# Altium schematic symbol library PowerPCB.SchLib: 2 symbols
Pins are listed as number, name and electrical type; pins without a type are passive.

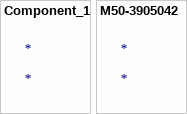
[diagram p0: symbols Component_1 to M50-3905042]

## Component_1
designator *

## M50-3905042
designator *
CONN HDR 1.27MM R/A AU 100POS; Manufacturer: Harwin Inc.; Manufacturer Part Number: M50-3905042; Connector Type: Unshrouded; Number of Positions: 100; Number of Positions Loaded: All; Pitch: 0.050" (1.27mm); Molding Height Above Board: 0.134" (3.40mm); Supplier 1: Digi-Key; RoHS: RoHS Compliant; Category: Connectors, Interconnects; Stock 1: 56; Pricing 1: 1=8.26, 10=7.912, 50=6.88, 100=6.536, 250=5.848, 500=5.504, 1000=4.816, 2500=4.5752, 5000=4.472 (USD); Packaging: Bulk; Number of Rows: 2; Row Spacing: 0.050" (1.27mm); Height Stacking (Mating): -; Contact Mating Length: 0.150" (3.81mm); Mounting Type: Through Hole, Right Angle; Termination: Solder; Contact Finish: Gold; Contact Finish Thickness: 3µin (0.08µm); Features: -; Color: Black; ComponentLink1URL: http://cdn.harwin.com/pdfs/M50-390.pdf; ComponentLink1Description: http://cdn.harwin.com/pdfs/M50-390.pdf